# Altium footprint library ACS758.PcbLib: 1 footprints
Each footprint in its own frame and in the unit in brackets; x right, y up, seen from the top. Pads: shape width x height; smd on the part's side, far side on the other; paste and mask are expansions set on the pad; w line width, h text height; cw(c..) or ccw(c..) is an arc to the next point about the centre after c.
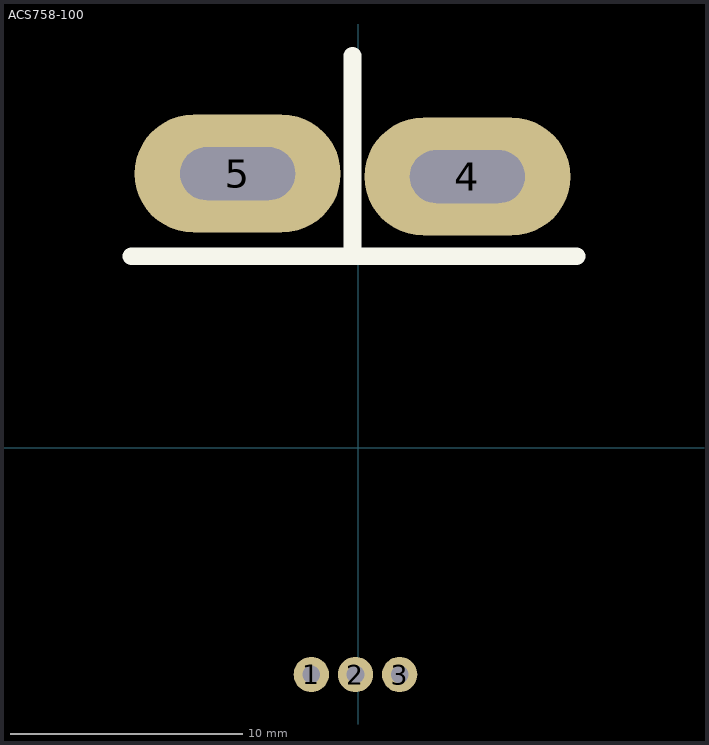
[diagram p0: the footprint, top view; thin cyan lines are the x and y axes]

## ACS758-100 [mil]
pads (5):
  round 60 hole 30: 1(-80,-385) 2(-5,-385) 3(70,-385)
  oval 350x200 hole 90 slot 195 at 0 deg: 4(185,460) 5(-205,465)
Top Overlay:
  lines w10: -10,325 -10,665
  lines w30: -385,325 -10,325 ; -10,665 -10,325 ; 370,325 -10,325
Bottom Overlay:
  lines w30: -390,325 -15,325 ; -10,325 -10,665 ; -5,325 375,325
3D body "User Library-ACS758.STEP": height 279.53, standoff -138.65, extent -280.59,-403.7 270.59,492.13